# Altium footprint library Arduinolib.PcbLib: 14 footprints
Each footprint in its own frame and in the unit in brackets; x right, y up, seen from the top. Pads: shape width x height; smd on the part's side, far side on the other; paste and mask are expansions set on the pad; w line width, h text height; cw(c..) or ccw(c..) is an arc to the next point about the centre after c.
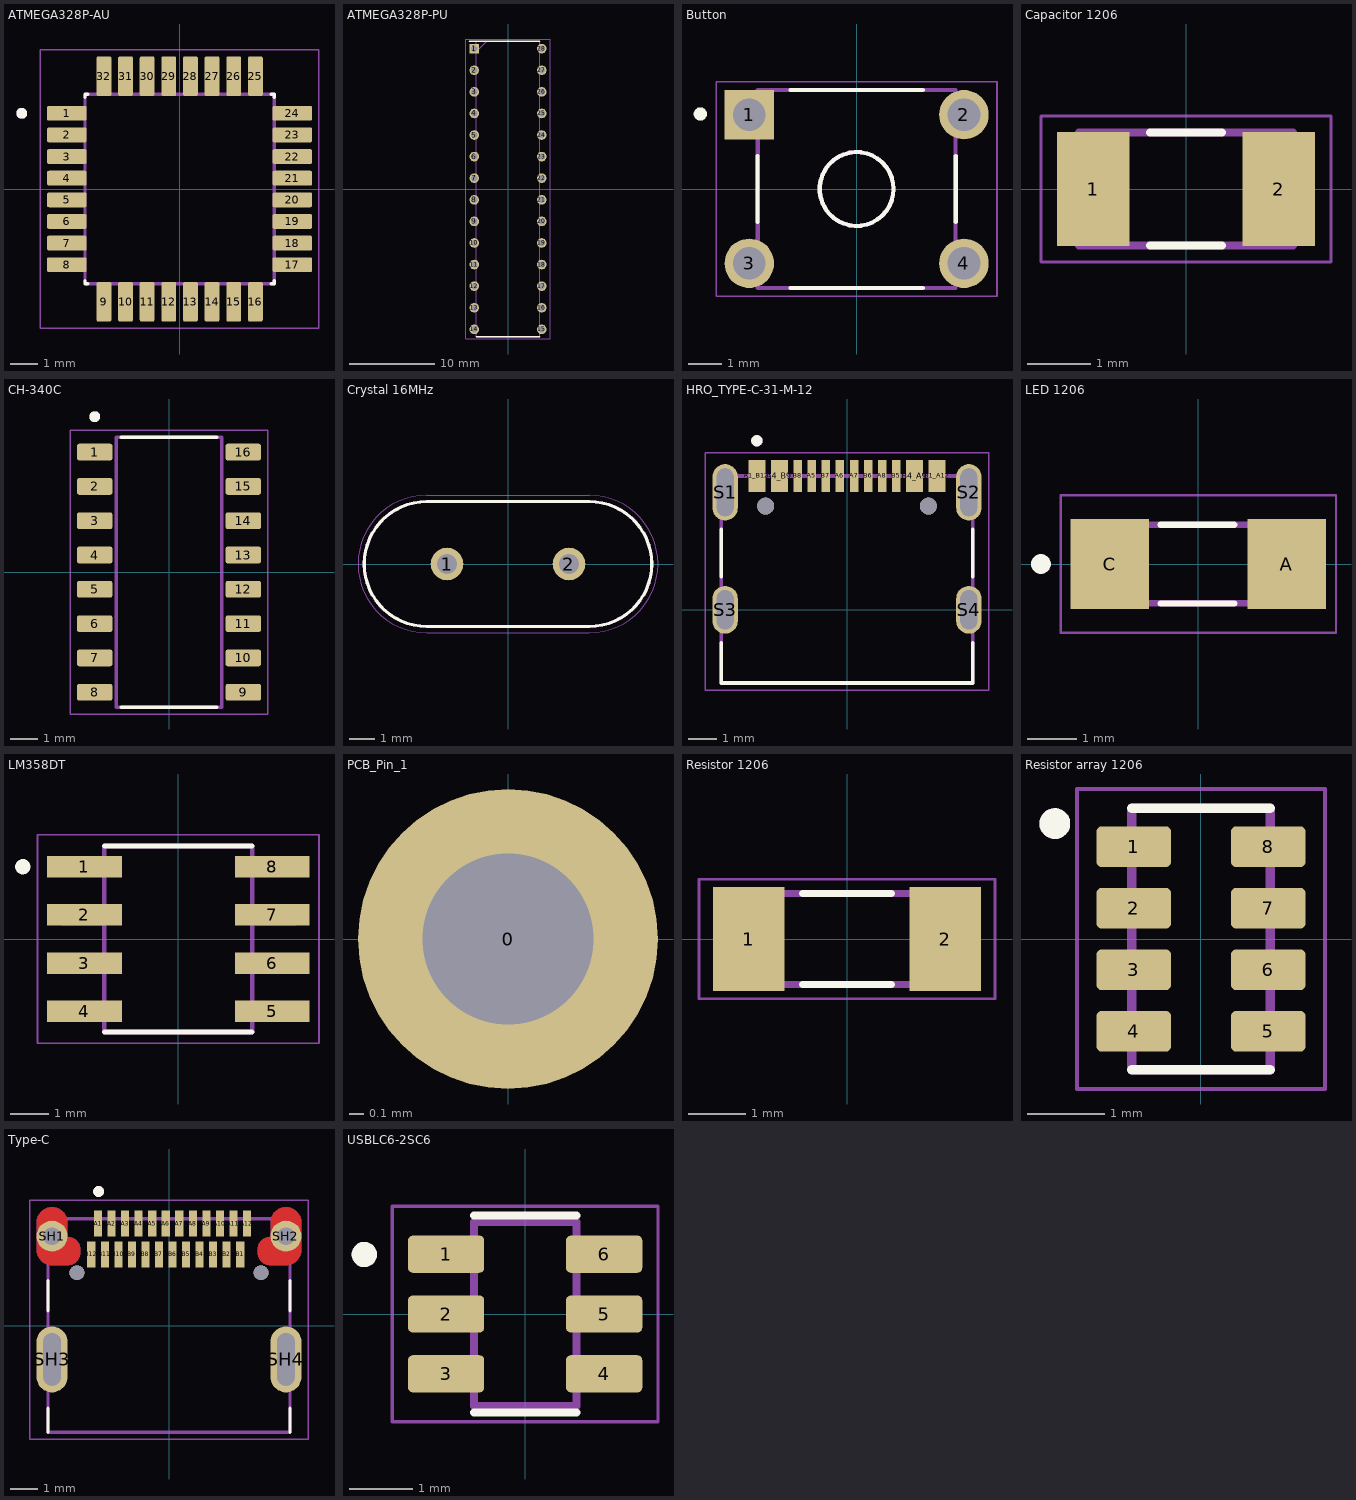
[diagram p0: the footprints below, top view; thin cyan lines are the x and y axes]

## ATMEGA328P-AU [mm]
height 1.2
pads (32):
  rrect25% 1.47x0.55 smd paste+0 mask+0.102: 1(-4.17,2.8) 2(-4.17,2) 3(-4.17,1.2) 4(-4.17,0.4) 5(-4.17,-0.4) 6(-4.17,-1.2) 7(-4.17,-2) 8(-4.17,-2.8) 17(4.17,-2.8) 18(4.17,-2) 19(4.17,-1.2) 20(4.17,-0.4) 21(4.17,0.4) 22(4.17,1.2) 23(4.17,2) 24(4.17,2.8)
  rrect25% 0.55x1.47 smd paste+0 mask+0.102: 9(-2.8,-4.17) 10(-2,-4.17) 11(-1.2,-4.17) 12(-0.4,-4.17) 13(0.4,-4.17) 14(1.2,-4.17) 15(2,-4.17) 16(2.8,-4.17) 25(2.8,4.17) 26(2,4.17) 27(1.2,4.17) 28(0.4,4.17) 29(-0.4,4.17) 30(-1.2,4.17) 31(-2,4.17) 32(-2.8,4.17)
Top Overlay:
  circle w0.2: c-5.84,2.8 r0.1
  lines w0.127: -3.5,-3.395 -3.5,-3.5 -3.395,-3.5 ; -3.5,3.395 -3.5,3.5 -3.395,3.5 ; 3.395,-3.5 3.5,-3.5 3.5,-3.395 ; 3.395,3.5 3.5,3.5 3.5,3.395
Mechanical 13:
  circle w0.2: c-5.84,2.8 r0.1
  lines w0.127: -3.5,-3.5 3.5,-3.5 3.5,3.5 -3.5,3.5 -3.5,-3.5
Mechanical 15:
  lines w0.05: -5.155,-5.155 5.155,-5.155 5.155,5.155 -5.155,5.155 -5.155,-5.155
3D body "step_temp.STEP": height 1.2, standoff 0, extent -4.5,-4.5 4.5,4.5

## ATMEGA328P-PU [mm]
pads (28):
  rect 1.133x1.133 / inner round 1.133 / far side rect 1.133x1.133 hole 0.733 mask+0.102: 1(-3.969,16.51)
  round 1.133 hole 0.733 mask+0.102: 2(-3.969,13.97) 3(-3.969,11.43) 4(-3.969,8.89) 5(-3.969,6.35) 6(-3.969,3.81) 7(-3.969,1.27) 8(-3.969,-1.27) 9(-3.969,-3.81) 10(-3.969,-6.35) 11(-3.969,-8.89) 12(-3.969,-11.43) 13(-3.969,-13.97) 14(-3.969,-16.51) 15(3.969,-16.51) 16(3.969,-13.97) 17(3.969,-11.43) 18(3.969,-8.89) 19(3.969,-6.35) 20(3.969,-3.81) 21(3.969,-1.27) 22(3.969,1.27) 23(3.969,3.81) 24(3.969,6.35) 25(3.969,8.89) 26(3.969,11.43) 27(3.969,13.97) 28(3.969,16.51)
Top Overlay:
  lines w0.2: -4.535,17.399 3.746,17.399 ; -3.746,-17.399 3.746,-17.399
Mechanical 13:
  lines w0.05: -4.944,-17.649 4.944,-17.649 4.944,17.649 -4.944,17.649 -4.944,-17.649
  lines w0.1: -3.746,16.129 -2.476,17.399 ; -3.746,-17.399 3.746,-17.399 3.746,17.399 -3.746,17.399 -3.746,-17.399

## Button [mm]
pads (4):
  rect 1.498x1.498 / inner round 1.498 / far side rect 1.498x1.498 hole 0.99 mask+0.102: 1(-3.25,2.25)
  round 1.498 hole 0.99 mask+0.102: 2(3.25,2.25) 3(-3.25,-2.25) 4(3.25,-2.25)
Top Overlay:
  circle w0.2: c-4.733,2.271 r0.1
  circle w0.127: c0,0 r1.118
  lines w0.127: -3,-1 -3,1 ; -2,-3 2,-3 ; -2,3 2,3 ; 3,-1 3,1
Mechanical 13:
  circle w0.127: c0,0 r1.118
  lines w0.127: -2.995,-2.995 2.995,-2.995 2.995,2.995 -2.995,2.995 -2.995,-2.995
Mechanical 15:
  lines w0.05: -4.25,-3.25 4.25,-3.25 4.25,3.25 -4.25,3.25 -4.25,-3.25
3D body "step_temp.STEP": height 10.16, standoff -2.85, extent -3.9,-2.995 3.9,2.995

## Capacitor 1206 [mm]
pads (2):
  rect 1.16x1.82 smd: 1(-1.475,0) 2(1.475,0)
Top Overlay:
  lines w0.127: -0.57,-0.9 0.57,-0.9 ; -0.57,0.9 0.57,0.9
Mechanical 13:
  lines w0.127: -1.7,-0.9 1.7,-0.9 1.7,0.9 -1.7,0.9 -1.7,-0.9
Mechanical 15:
  lines w0.05: -2.308,-1.158 2.308,-1.158 2.308,1.158 -2.308,1.158 -2.308,-1.158
3D body "step_temp.STEP": height 1.78, standoff 0, extent -1.6,-0.8 1.6,0.8

## CH-340C [mm]
height 1.8
pads (16):
  rrect25% 1.31x0.62 smd: 1(-2.75,4.445) 2(-2.75,3.175) 3(-2.75,1.905) 4(-2.75,0.635) 5(-2.75,-0.635) 6(-2.75,-1.905) 7(-2.75,-3.175) 8(-2.75,-4.445) 9(2.75,-4.445) 10(2.75,-3.175) 11(2.75,-1.905) 12(2.75,-0.635) 13(2.75,0.635) 14(2.75,1.905) 15(2.75,3.175) 16(2.75,4.445)
Top Overlay:
  circle w0.2: c-2.75,5.755 r0.1
  lines w0.127: -1.775,-5 1.775,-5 -1.775,-5 ; -1.775,5 1.775,5 -1.775,5
Mechanical 13:
  circle w0.2: c-2.75,5.755 r0.1
  lines w0.127: -1.95,-5 1.95,-5 1.95,5 -1.95,5 -1.95,-5
Mechanical 15:
  lines w0.05: -3.655,-5.25 -3.655,5.25 3.655,5.25 3.655,-5.25 -3.655,-5.25
3D body "step_temp.STEP": height 1.8, standoff 0, extent -3,-5 3,5

## Crystal 16MHz [mm]
height 3.7
pads (2):
  round 1.308 hole 0.8 mask+0.102: 1(-2.44,0) 2(2.44,0)
Top Overlay:
  lines w0.127: -5.75,0 ccw(c-3.25,0) -3.25,-2.5 3.25,-2.5 ccw(c3.25,0) 5.75,0 ccw(c3.25,0) 3.25,2.5 -3.25,2.5 ccw(c-3.25,0) -5.75,0
Mechanical 13:
  lines w0.127: -5.75,0 ccw(c-3.25,0) -3.25,-2.5 3.25,-2.5 ccw(c3.25,0) 5.75,0 ccw(c3.25,0) 3.25,2.5 -3.25,2.5 ccw(c-3.25,0) -5.75,0
Mechanical 15:
  lines w0.05: -6,0 ccw(c-3.25,0) -3.25,-2.75 3.25,-2.75 ccw(c3.25,0) 6,0 ccw(c3.25,0) 3.25,2.75 -3.25,2.75 ccw(c-3.25,0) -6,0
3D body "step_temp.STEP": height 3.7, standoff -14.2, extent -5.75,-2.5 5.75,2.5

## HRO_TYPE-C-31-M-12 [mm]
height 3.26
pads (18):
  rect 0.6x1.14 smd mask+0.05: A1_B12(-3.2,4.75) A4_B9(-2.4,4.75) B1_A12(3.2,4.75) B4_A9(2.4,4.75)
  rect 0.3x1.14 smd mask+0.05: A5(-1.25,4.75) A6(-0.25,4.75) A7(0.25,4.75) A8(1.25,4.75) B5(1.75,4.75) B6(0.75,4.75) B7(-0.75,4.75) B8(-1.75,4.75)
  oval 0.9x2 hole 0.6 slot 1.7 at 90 deg: S1(-4.325,4.17) S2(4.325,4.17)
  oval 0.9x1.7 hole 0.6 slot 1.4 at 90 deg: S3(-4.325,0) S4(4.325,0)
  round 0.6 hole 0.6 unplated: ""(-2.89,3.68) ""(2.89,3.68)
Top Overlay:
  circle w0.2: c-3.2,6 r0.1
  lines w0.127: -4.47,-1.17 -4.47,-2.6 4.47,-2.6 4.47,-1.17 ; -4.47,1.17 -4.47,2.85 ; 4.47,1.17 4.47,2.85
Mechanical 13:
  circle w0.2: c-3.2,6 r0.1
  lines w0.127: -4.47,-2.6 4.47,-2.6 4.47,4.75 -4.47,4.75 -4.47,-2.6
Mechanical 15:
  lines w0.05: -5.025,-2.85 -5.025,5.57 5.025,5.57 5.025,-2.85 -5.025,-2.85
3D body "step_temp.STEP": height 3.31, standoff -0.99, extent -4.47,-2.6 4.47,5.305

## LED 1206 [mm]
height 1.2
pads (2):
  rect 1.6x1.82 smd: A(1.8,0) C(-1.8,0)
Top Overlay:
  circle w0.2: c-3.2,0 r0.1
  lines w0.127: -0.769,0.8 0.73,0.8 ; -0.769,-0.802 0.73,-0.802
Mechanical 13:
  circle w0.2: c-3.2,0 r0.1
  lines w0.127: -1.6,-0.8 -1.6,0.8 1.6,0.8 1.6,-0.8 -1.6,-0.8
Mechanical 15:
  lines w0.05: -2.8,-1.4 2.8,-1.4 2.8,1.4 -2.8,1.4 -2.8,-1.4
3D body "LTST-C230KFKT.STEP": height 1.12, standoff 0.02, extent -1.6,-0.8 1.6,0.8

## LM358DT [mm]
pads (8):
  rect 1.97x0.57 smd: 1(-2.475,1.905) 2(-2.475,0.635) 3(-2.475,-0.635) 4(-2.475,-1.905) 5(2.475,-1.905) 6(2.475,-0.635) 7(2.475,0.635) 8(2.475,1.905)
Top Overlay:
  circle w0.2: c-4.1,1.905 r0.1
  lines w0.127: -1.95,-2.45 1.95,-2.45 ; -1.95,2.45 1.95,2.45
Mechanical 13:
  lines w0: -3.099,-2.159 -2.007,-2.159 -2.007,-1.651 -3.099,-1.651 -3.099,-2.159 ; -3.099,-0.889 -2.007,-0.889 -2.007,-0.381 -3.099,-0.381 -3.099,-0.889 ; -3.099,0.381 -2.007,0.381 -2.007,0.889 -3.099,0.889 -3.099,0.381 ; -3.099,1.651 -2.007,1.651 -2.007,2.159 -3.099,2.159 -3.099,1.651 ; 2.007,-2.159 3.099,-2.159 3.099,-1.651 2.007,-1.651 2.007,-2.159 ; 2.007,-0.889 3.099,-0.889 3.099,-0.381 2.007,-0.381 2.007,-0.889 ; 2.007,0.381 3.099,0.381 3.099,0.889 2.007,0.889 2.007,0.381 ; 2.007,1.651 3.099,1.651 3.099,2.159 2.007,2.159 2.007,1.651
  lines w0.127: -1.95,-2.45 -1.95,2.45 1.95,2.45 1.95,-2.45 -1.95,-2.45
Mechanical 15:
  lines w0.05: -3.71,-2.75 -3.71,2.75 3.71,2.75 3.71,-2.75 -3.71,-2.75

## PCB_Pin_1 [mm]
pads (1):
  round 2.1 hole 1.2: 0(0,0)
3D body "PIN_1.stp": height 4.55, standoff -3.12, extent -1,-0.999 1,0.999

## Resistor 1206 [mm]
pads (2):
  rect 1.25x1.82 smd: 1(-1.725,0) 2(1.725,0)
Top Overlay:
  lines w0.127: -0.78,-0.8 0.78,-0.8 ; -0.78,0.8 0.78,0.8
Mechanical 13:
  lines w0.127: -1.6,-0.8 1.6,-0.8 1.6,0.8 -1.6,0.8 -1.6,-0.8
Mechanical 15:
  lines w0.05: -2.6,-1.05 2.6,-1.05 2.6,1.05 -2.6,1.05 -2.6,-1.05
3D body "ERJ-U08F12R0V.STEP": height 0.6, standoff 0, extent -1.6,-0.8 1.6,0.8

## Resistor array 1206 [mm]
pads (8):
  rrect25% 0.97x0.53 smd: 1(-0.875,1.2) 2(-0.875,0.4) 3(-0.875,-0.4) 4(-0.875,-1.2) 5(0.875,-1.2) 6(0.875,-0.4) 7(0.875,0.4) 8(0.875,1.2)
Top Overlay:
  circle w0.2: c-1.9,1.5 r0.1
  lines w0.127: -0.9,-1.7 0.9,-1.7 ; -0.9,1.7 0.9,1.7
Mechanical 13:
  circle w0.2: c-1.9,1.5 r0.1
  lines w0.127: -0.9,-1.7 0.9,-1.7 0.9,1.7 -0.9,1.7 -0.9,-1.7
Mechanical 15:
  lines w0.05: -1.61,-1.95 1.61,-1.95 1.61,1.95 -1.61,1.95 -1.61,-1.95
3D body "step_temp.STEP": height 0.6, standoff 0, extent -0.8,-1.6 0.8,1.6

## Type-C [mm]
height 3.16
pads (30):
  rect 0.3x0.95 smd: A1(-2.62,3.765) A2(-2.12,3.765) A3(-1.62,3.765) A4(-1.12,3.765) A5(-0.62,3.765) A6(-0.12,3.765) A7(0.38,3.765) A8(0.88,3.765) A9(1.38,3.765) A10(1.88,3.765) A11(2.38,3.765) A12(2.88,3.765) B1(2.63,2.625) B2(2.13,2.625) B3(1.63,2.625) B4(1.13,2.625) B5(0.63,2.625) B6(0.13,2.625) B7(-0.37,2.625) B8(-0.87,2.625) B9(-1.37,2.625) B10(-1.87,2.625) B11(-2.37,2.625) B12(-2.87,2.625)
  round 1.14 hole 0.65 mask+0: SH1(-4.32,3.3) SH2(4.32,3.3)
  oval 1.14x2.44 hole 0.65 slot 1.95 at 90 deg: SH3(-4.32,-1.25) SH4(4.32,-1.25)
  round 0.55 hole 0.55 unplated: ""(-3.4,1.95) ""(3.4,1.95)
Top Layer:
  region: 155 vertices and 0 holes, not listed, extent 3.272,2.23 4.89,4.37
  region: 155 vertices and 0 holes, not listed, extent -4.89,2.23 -3.272,4.37
Bottom Layer:
  region: 155 vertices and 0 holes, not listed, extent 3.272,2.23 4.89,4.37
  region: 155 vertices and 0 holes, not listed, extent -4.89,2.23 -3.272,4.37
Top Overlay:
  circle w0.2: c-2.6,4.95 r0.1
  lines w0.127: -4.47,-3.95 -4.47,-3.05 ; -4.47,0.55 -4.47,1.65 ; 4.47,-3.95 4.47,-3.05 ; 4.47,0.55 4.47,1.65
Top Solder:
  drawing of 2 lines, arcs and shapes, not listed
Bottom Solder:
  drawing of 2 lines, arcs and shapes, not listed
Mechanical 1:
  lines w0: -4.645,2.8 ccw(c-4.32,2.8) -4.32,2.475 -3.72,2.475 ccw(c-3.72,2.8) -3.395,2.8 ccw(c-3.72,2.8) -3.72,3.125 -3.995,3.125 -3.995,3.8 ccw(c-4.32,3.8) -4.32,4.125 ccw(c-4.32,3.8) -4.645,3.8 -4.645,2.8 ; 3.395,2.8 cw(c3.72,2.8) 3.72,3.125 3.995,3.125 3.995,3.8 cw(c4.32,3.8) 4.32,4.125 cw(c4.32,3.8) 4.645,3.8 4.645,2.8 cw(c4.32,2.8) 4.32,2.475 3.72,2.475 cw(c3.72,2.8) 3.395,2.8
Mechanical 13:
  circle w0.2: c-2.6,4.95 r0.1
  lines w0.127: -4.47,-3.95 -4.47,3.95 4.47,3.95 4.47,-3.95 -4.47,-3.95
Mechanical 15:
  lines w0.05: -5.14,-4.2 -5.14,4.62 5.14,4.62 5.14,-4.2 -5.14,-4.2
3D body "step_temp.STEP": height 3.61, standoff -0.15, extent -4.47,-3.937 4.47,4.163

## USBLC6-2SC6 [mm]
pads (6):
  rrect25% 1.21x0.59 smd: 1(-1.255,0.95) 2(-1.255,0) 3(-1.255,-0.95) 4(1.255,-0.95) 5(1.255,0) 6(1.255,0.95)
Top Overlay:
  circle w0.2: c-2.555,0.945 r0.1
  lines w0.127: -0.813,-1.565 0.813,-1.565 ; -0.813,1.565 0.813,1.565
Mechanical 13:
  circle w0.2: c-2.555,0.945 r0.1
  lines w0.127: -0.813,-1.462 -0.813,1.462 0.813,1.462 0.813,-1.462 -0.813,-1.462
Mechanical 15:
  lines w0.05: -2.11,-1.713 2.11,-1.713 2.11,1.713 -2.11,1.713 -2.11,-1.713
3D body "step_temp.STEP": height 1.42, standoff -0.03, extent -1.4,-1.462 1.4,1.462